# Altium footprint library DC-DC-AJ39.PcbLib: 1 footprints
Each footprint in its own frame and in the unit in brackets; x right, y up, seen from the top. Pads: shape width x height; smd on the part's side, far side on the other; paste and mask are expansions set on the pad; w line width, h text height; cw(c..) or ccw(c..) is an arc to the next point about the centre after c.
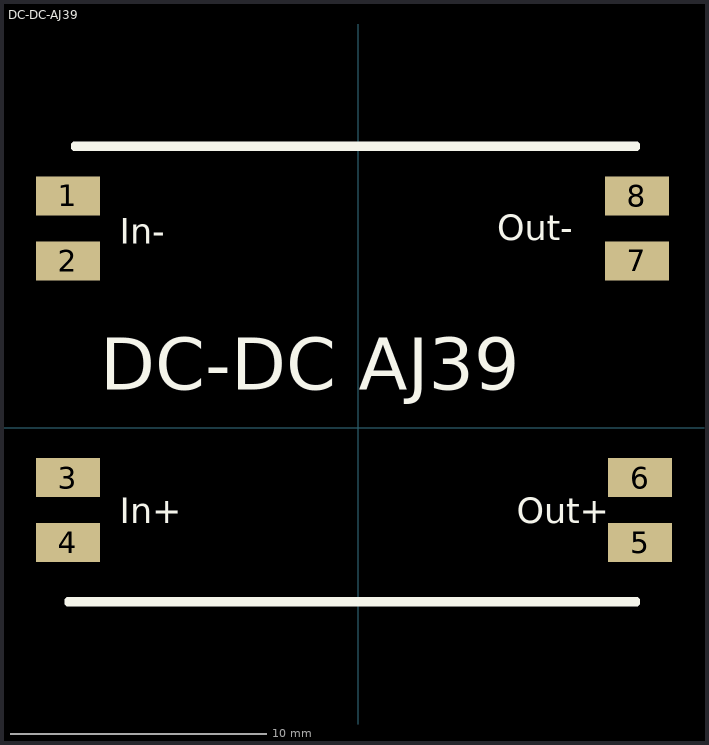
[diagram p0: the footprint, top view; thin cyan lines are the x and y axes]

## DC-DC-AJ39 [mm]
pads (8):
  rect 2.5x1.524 smd paste+0 mask+0.102: 1(-11.35,9.049) 2(-11.35,6.509) 3(-11.35,-1.951) 4(-11.35,-4.491) 5(11.002,-4.491) 6(11.002,-1.951) 7(10.875,6.509) 8(10.875,9.049)
Top Overlay:
  lines w0.254: -11.35,-6.858 10.875,-6.858 10.875,-6.731 -11.35,-6.731 -11.35,-6.858 ; -11.096,10.922 10.875,10.922 10.875,11.049 -11.096,11.049 -11.096,10.922
  text "In-" at -9.322,7.188 h1
  text "Out-" at 5.41,7.315 h1
  text "In+" at -9.322,-3.734 h1
  text "Out+" at 6.172,-3.734 h1
  text "DC-DC AJ39" at -10.084,1.473 h2.03